# EAGLE library part JN5148 (library jennic)
JN5148 WIRELESS CHIP
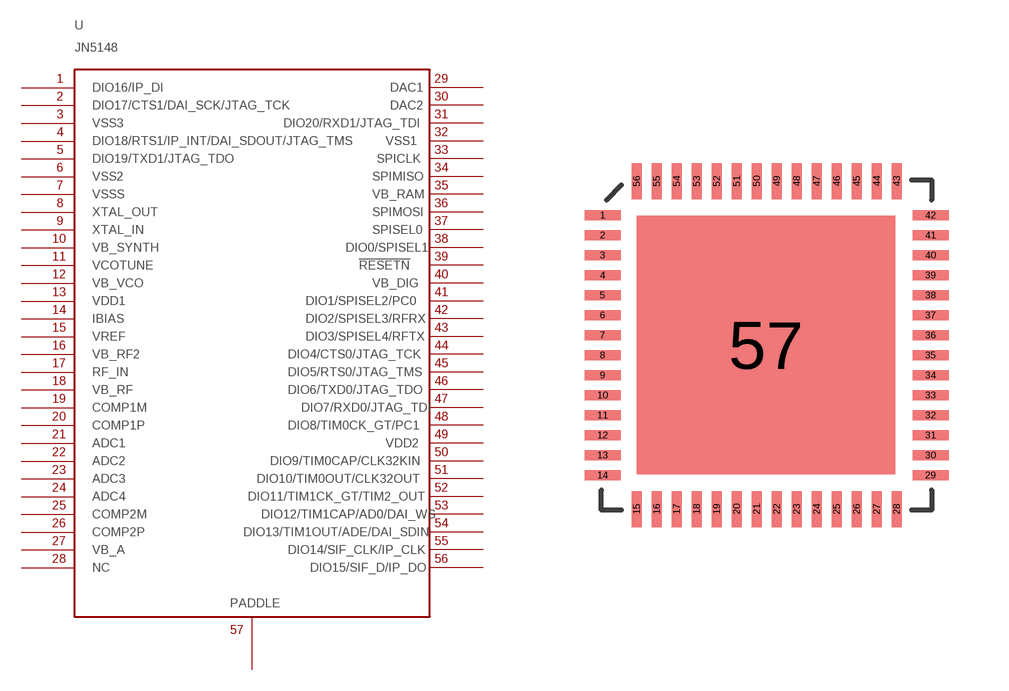
[diagram p2: symbol with the pads of QFN56-JN; footprint QFN56-JN]

Designator prefix -

## JN5148  [QFN56-JN]
1  P$1
2  P$2
3  P$3
4  P$4
5  P$5
6  P$6
7  P$7
8  P$8
9  P$9
10  P$10
11  P$11
12  P$12
13  P$13
14  P$14
15  P$15
16  P$16
17  P$17
18  P$18
19  P$19
20  P$20
21  P$21
22  P$22
23  P$23
24  P$24
25  P$25
26  P$26
27  P$27
28  P$28
29  P$29
30  P$30
31  P$31
32  P$32
33  P$33
34  P$34
35  P$35
36  P$36
37  P$37
38  P$38
39  P$39
40  P$40
41  P$41
42  P$42
43  P$43
44  P$44
45  P$45
46  P$46
47  P$47
48  P$48
49  P$49
50  P$50
51  P$51
52  P$52
53  P$53
54  P$54
55  P$55
56  P$56
57  P$57

## Footprint QFN56-JN (pad centres in mm)
smd 0.9 x 0.25: 1 -4.11,3.24; 2 -4.11,2.74; 3 -4.11,2.24; 4 -4.11,1.74; 5 -4.11,1.24; 6 -4.11,0.74; 7 -4.11,0.24; 8 -4.11,-0.26; 9 -4.11,-0.76; 10 -4.11,-1.26; 11 -4.11,-1.76; 12 -4.11,-2.26; 13 -4.11,-2.76; 14 -4.11,-3.26; 29 4.09,-3.26; 30 4.09,-2.76; 31 4.09,-2.26; 32 4.09,-1.76; 33 4.09,-1.26; 34 4.09,-0.76; 35 4.09,-0.26; 36 4.09,0.24; 37 4.09,0.74; 38 4.09,1.24; 39 4.09,1.74; 40 4.09,2.24; 41 4.09,2.74; 42 4.09,3.24
smd 0.25 x 0.9: 15 -3.26,-4.11; 16 -2.76,-4.11; 17 -2.26,-4.11; 18 -1.76,-4.11; 19 -1.26,-4.11; 20 -0.76,-4.11; 21 -0.26,-4.11; 22 0.24,-4.11; 23 0.74,-4.11; 24 1.24,-4.11; 25 1.74,-4.11; 26 2.24,-4.11; 27 2.74,-4.11; 28 3.24,-4.11; 43 3.24,4.09; 44 2.74,4.09; 45 2.24,4.09; 46 1.74,4.09; 47 1.24,4.09; 48 0.74,4.09; 49 0.24,4.09; 50 -0.26,4.09; 51 -0.76,4.09; 52 -1.26,4.09; 53 -1.76,4.09; 54 -2.26,4.09; 55 -2.76,4.09; 56 -3.26,4.09
smd 6.452 x 6.452: 57 -0.022,-0.009